# EAGLE library part 6111 (library subminiature_audio_vacuum_tubes)
6111 Med. Mu Double Triode
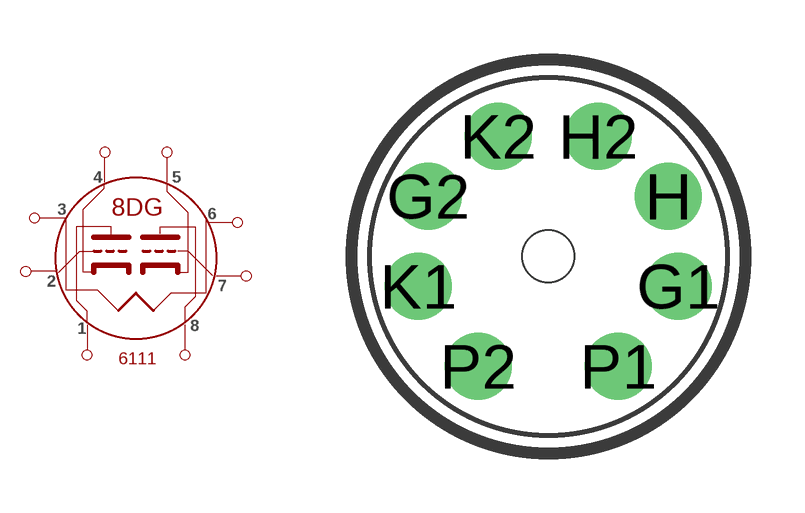
[diagram p0: symbol with the pads of SUB-MINI-OCTAL-PCB; footprint SUB-MINI-OCTAL-PCB]

Designator prefix -

## 6111  [SUB-MINI-OCTAL-PCB]
G1  P$2
G2  P$7
H  P$3
H2  P$6
K1  P$4
K2  P$5
P1  P$1
P2  P$8

## Footprint SUB-MINI-OCTAL-PCB (pad centres in mm)
Subminiature Octal Tube Socket Cinch or similar, pcb
drill 0.9 pad 1.676 round: G1 3.25,-0.75; G2 -3,1.5; H 3,1.5; H2 1.25,3; K1 -3.25,-0.75; K2 -1.25,3; P1 1.75,-2.75; P2 -1.75,-2.75
hole 1.3 at 0,0